# EAGLE library part SMD-BLACK-FEMALE-HEADER(7P-2.54) (library Seeed-OPL-Connector)
320030106
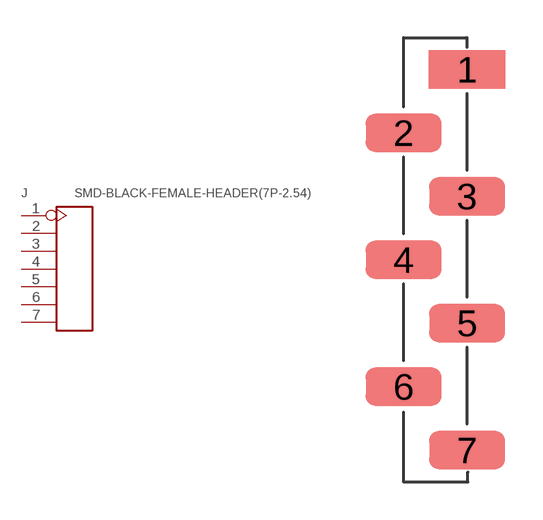
[diagram p109: symbol with the pads of H7-SMD-2.54; footprint H7-SMD-2.54]

Designator prefix J

## SMD-BLACK-FEMALE-HEADER(7P-2.54) (MPN: F171-1107A0BMU01; VALUE: 7p-SMD-2.54)  [H7-SMD-2.54]
1  1
2  2
3  3
4  4
5  5
6  6
7  7

## Footprint H7-SMD-2.54 (pad centres in mm)
smd 3.048 x 1.524: 1 1.27,7.62; 2 -1.27,5.08; 3 1.27,2.54; 4 -1.27,0; 5 1.27,-2.54; 6 -1.27,-5.08; 7 1.27,-7.62